# Altium footprint library LEDs.PcbLib: 54 footprints (part 3 of 4)
Each footprint in its own frame and in the unit in brackets; x right, y up, seen from the top. Pads: shape width x height; smd on the part's side, far side on the other; paste and mask are expansions set on the pad; w line width, h text height; cw(c..) or ccw(c..) is an arc to the next point about the centre after c.
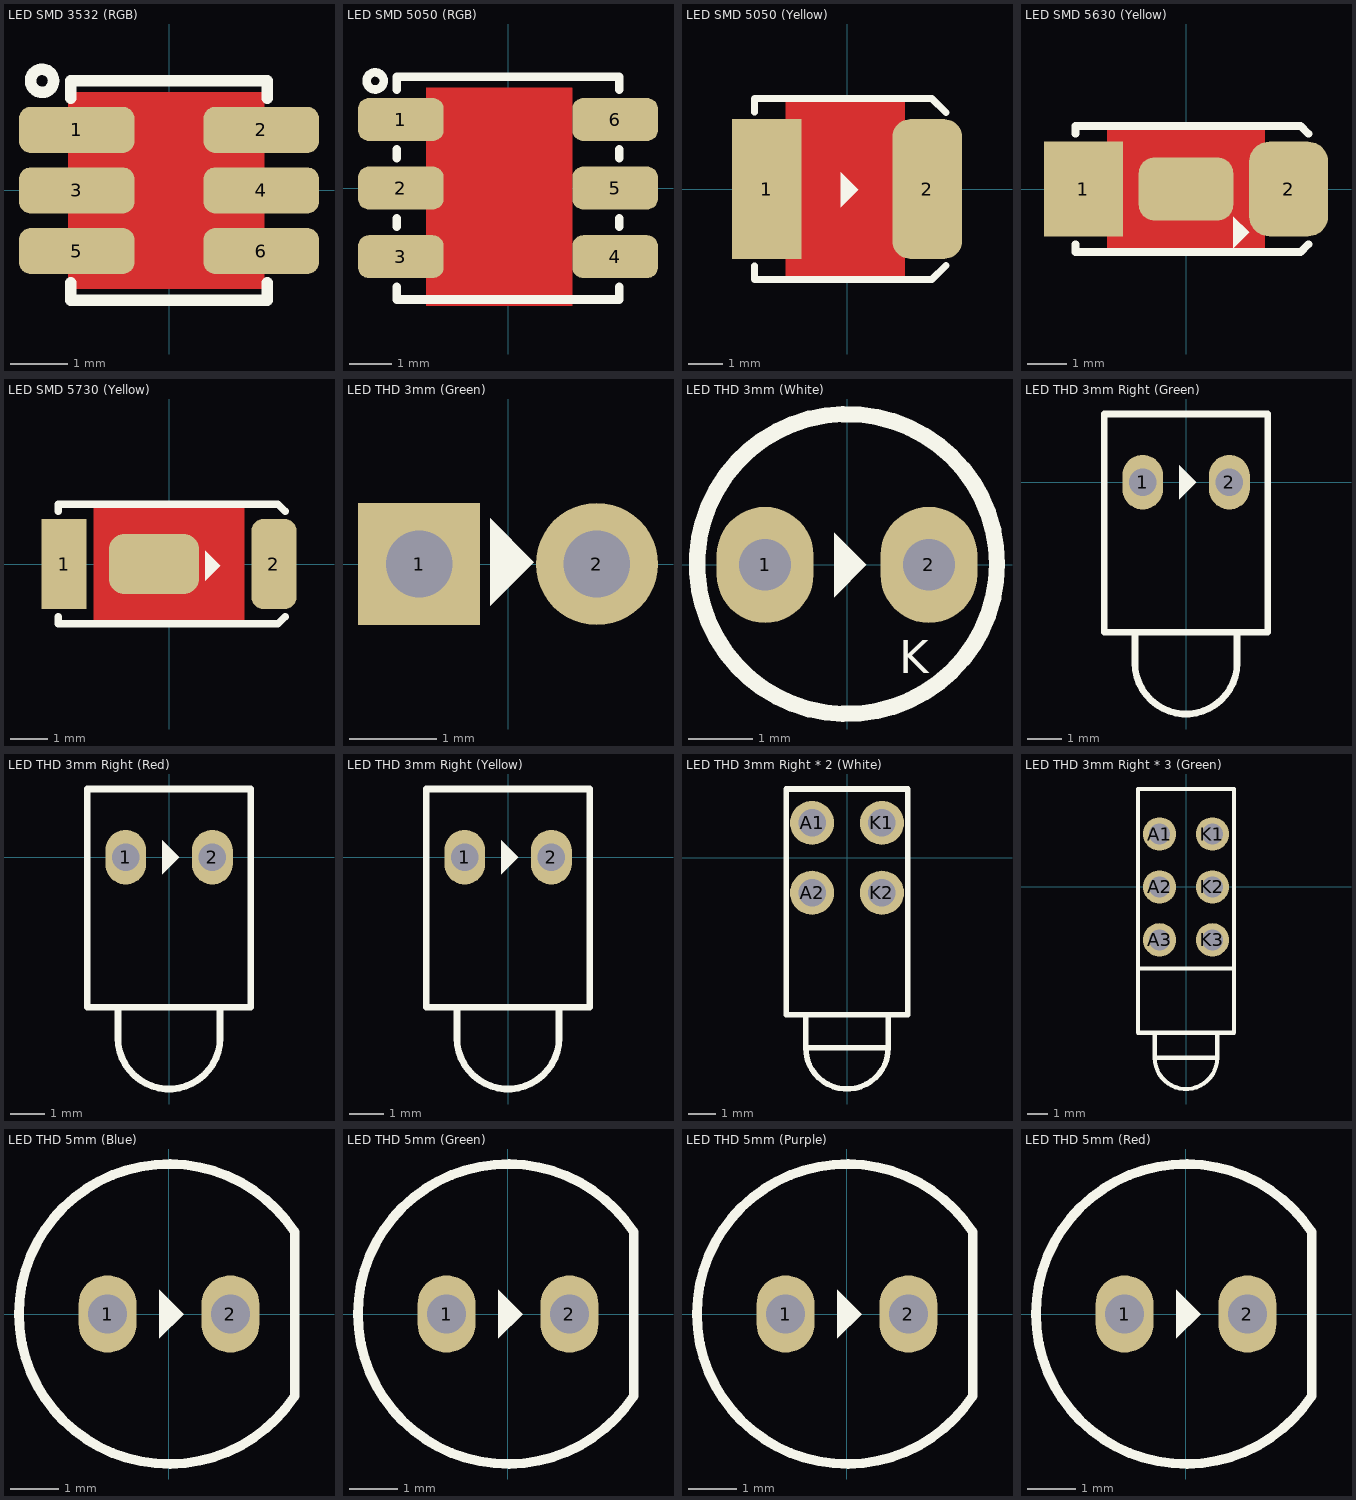
[diagram p2: the footprints below, top view; thin cyan lines are the x and y axes]

## LED SMD 3532 (RGB) [mm]
pads (6):
  rrect50% 2x0.8 smd mask+0.075: 1(-1.6,1.05) 2(1.6,1.05) 3(-1.6,0) 4(1.6,0) 5(-1.6,-1.05) 6(1.6,-1.05)
Top Layer:
  pour cut-out: -1.75,1.7 1.65,1.7 1.65,-1.7 -1.75,-1.7
Top Overlay:
  circle w0.2: c-2.2,1.9 r0.2
  lines w0.2: -1.7,-1.6 -1.7,-1.9 1.7,-1.9 1.7,-1.6 ; -1.7,1.6 -1.7,1.9 1.7,1.9 1.7,1.6
3D body "User Library-LED_RGB_Osram_LRTB_G6SG.step": height 2.01, standoff 0, extent -1.8,-1.75 1.8,1.75

## LED SMD 5050 (RGB) [mm]
pads (6):
  rrect50% 2x1 smd mask+0.1: 1(-2.5,1.6) 2(-2.5,0) 3(-2.5,-1.6) 4(2.5,-1.6) 5(2.5,0) 6(2.5,1.6)
Top Layer:
  pour cut-out: -1.903,2.337 1.497,2.337 1.497,-2.743 -1.903,-2.743
Top Overlay:
  circle w0.2: c-3.1,2.5 r0.2
  lines w0.2: -2.6,-2.3 -2.6,-2.6 2.6,-2.6 2.6,-2.3 ; -2.6,-0.9 -2.6,-0.7 ; -2.6,0.7 -2.6,0.9 ; -2.6,2.3 -2.6,2.6 2.6,2.6 2.6,2.3 ; 2.6,-0.9 2.6,-0.7 ; 2.6,0.7 2.6,0.9
3D body "User Library-APA102C_RGB.step": height 1.55, standoff 0, extent -2.75,-2.5 2.75,2.5

## LED SMD 5050 (Yellow) [mm]
pads (2):
  rect 2x4 smd mask+0.1: 1(-2.3,0)
  rrect50% 2x4 smd mask+0.1: 2(2.3,0)
Top Layer:
  pour cut-out: -1.75,2.54 1.65,2.54 1.65,-2.54 -1.75,-2.54
Top Overlay:
  region: -0.175,0.475 -0.175,-0.525 0.325,-0.025
  lines w0.2: -2.65,-2.2 -2.65,-2.6 2.43,-2.6 2.84,-2.19 ; -2.65,2.2 -2.65,2.6 2.43,2.6 2.84,2.19
3D body "User Library-smd_led_5050.step": height 1.6, standoff 0, extent -2.65,-2.5 2.65,2.5

## LED SMD 5630 (Yellow) [mm]
pads (3):
  rect 2x2.4 smd mask+0.1: 1(-2.6,0)
  rrect50% 2x2.4 smd mask+0.1: 2(2.6,0)
  rrect50% 2.4x1.6 smd mask+0.075: ""(0,0)
Top Layer:
  pour cut-out: -2,1.6 2,1.6 2,-1.6 -2,-1.6
Top Overlay:
  region: 1.6,-1.1 1.2,-0.7 1.2,-1.5
  lines w0.2: -2.8,-1.4 -2.8,-1.6 2.9,-1.6 3.1,-1.4 ; -2.8,1.4 -2.8,1.6 2.9,1.6 3.1,1.4
3D body "User Library-LED_5630.step": height 0.86, standoff -0.04, extent -2.8,-1.5 2.8,1.5

## LED SMD 5730 (Yellow) [mm]
pads (3):
  rect 1.2x2.4 smd mask+0.1: 1(-2.8,0)
  rrect50% 1.2x2.4 smd mask+0.1: 2(2.8,0)
  rrect50% 2.4x1.6 smd mask+0.075: ""(-0.4,0)
Top Layer:
  pour cut-out: -2,1.6 2,1.6 2,-1.6 -2,-1.6
Top Overlay:
  region: 1.368,-0.048 0.968,0.352 0.968,-0.448
  lines w0.2: -2.95,-1.4 -2.95,-1.6 2.9,-1.6 3.1,-1.4 ; -2.95,1.4 -2.95,1.6 2.9,1.6 3.1,1.4
3D body "User Library-PLCC-2white.step": height 0.9, standoff 0, extent -2.85,-1.5 2.85,1.5

## LED THD 3mm (Green) [mil]
pads (2):
  rect 55x55 hole 30: 1(-40,0)
  round 55 hole 30: 2(40,0)
Top Overlay:
  region: -8.07,20.54 -8.07,-18.83 11.62,0.85
3D body "LED.STEP": height 153.55, standoff -59.05, extent -68.9,-69 68.9,68.8

## LED THD 3mm (White) [mm]
pads (2):
  oval 1.5x1.8 hole 0.8: 1(-1.27,0) 2(1.27,0)
Top Overlay:
  circle w0.254: c0,0.014 r2.324
  region: -0.2,0.5 -0.2,-0.5 0.3,0
  text "K" at 0.813,-1.676 h0.51
3D body "CircuitWorks-LED DIP 3MM.step": height 6.5, standoff -2, extent -1.9,-1.9 1.6,1.9

## LED THD 3mm Right (Green) [mm]
pads (2):
  oval 1.2x1.6 hole 0.8: 1(-1.27,0) 2(1.27,0)
Top Overlay:
  region: -0.2,0.5 -0.2,-0.5 0.3,0
  lines w0.2: -1.5,-4.4 -1.5,-5.3 ccw(c0,-5.3) 1.5,-5.3 1.5,-4.4 ; -2.4,-4.4 -2.4,2 2.4,2 2.4,-4.4 -2.4,-4.4
3D body "LEDd3YC-Green.STEP": height 7.31, standoff -2.49, extent -2.323,-6.832 2.3,1.927

## LED THD 3mm Right (Red) [mm]
pads (2):
  oval 1.2x1.6 hole 0.8: 1(-1.27,0) 2(1.27,0)
Top Overlay:
  region: -0.2,0.5 -0.2,-0.5 0.3,0
  lines w0.2: -1.5,-4.4 -1.5,-5.3 ccw(c0,-5.3) 1.5,-5.3 1.5,-4.4 ; -2.4,-4.4 -2.4,2 2.4,2 2.4,-4.4 -2.4,-4.4
3D body "LEDd3YC-Red.STEP": height 7.31, standoff -2.49, extent -2.323,-6.832 2.3,1.927

## LED THD 3mm Right (Yellow) [mm]
pads (2):
  oval 1.2x1.6 hole 0.8: 1(-1.27,0) 2(1.27,0)
Top Overlay:
  region: -0.2,0.5 -0.2,-0.5 0.3,0
  lines w0.2: -1.5,-4.4 -1.5,-5.3 ccw(c0,-5.3) 1.5,-5.3 1.5,-4.4 ; -2.4,-4.4 2.4,-4.4 2.4,2 -2.4,2 -2.4,-4.4
3D body "LEDd3YC-Yellow.STEP": height 7.31, standoff -2.49, extent -2.323,-6.832 2.3,1.927

## LED THD 3mm Right * 2 (White) [mm]
pads (4):
  round 1.6 / inner round 1.6 / far side oval 1.6x2 hole 1: A1(-1.27,1.27) A2(-1.27,-1.27) K1(1.27,1.27) K2(1.27,-1.27)
Top Overlay:
  lines w0.2: -1.5,-5.7 -1.5,-6.9 ; 1.5,-5.7 1.5,-6.9 ; -1.5,-6.9 ccw(c0,-6.9) 1.5,-6.9 ; -1.5,-6.9 1.5,-6.9 ; -2.2,-5.7 -2.2,2.5 2.2,2.5 2.2,-5.7 -2.2,-5.7
Mechanical 29:
  text ".Designator" at -5.43,-1.27 h0.51
3D body "55307XXF.stp": height 9.65, standoff -3.68, extent -2.15,-8.55 2.168,2.448

## LED THD 3mm Right * 3 (Green) [mm]
pads (6):
  round 1.6 / inner round 1.6 / far side oval 1.6x2 hole 1: A1(-1.27,2.54) A2(-1.27,0) A3(-1.27,-2.54) K1(1.27,2.54) K2(1.27,0) K3(1.27,-2.54)
Top Overlay:
  lines w0.2: -2.3,-3.922 2.3,-3.922 ; -1.5,-7 -1.5,-8.2 ; 1.5,-7 1.5,-8.2 ; -1.5,-8.2 ccw(c0,-8.2) 1.5,-8.2 ; -1.5,-8.2 1.5,-8.2 ; -2.3,-7 -2.3,4.7 2.3,4.7 2.3,-7 -2.3,-7
3D body "LED bar 3-high 3mm.STEP": height 15.34, standoff -3.58, extent -2.16,-9.655 2.16,4.575

## LED THD 5mm (Blue) [mm]
pads (2):
  oval 1.2x1.6 hole 0.8: 1(-1.27,0) 2(1.27,0)
Top Overlay:
  region: -0.2,0.5 -0.2,-0.5 0.3,0
  lines w0.2: 2.6,-1.7 2.6,1.7 ; 2.6,-1.688 cw(c0,0) 2.6,1.688
3D body "LED-D5R.step": height 9.14, standoff -6.3, extent -3,-3 2.5,3

## LED THD 5mm (Green) [mm]
pads (2):
  oval 1.2x1.6 hole 0.8: 1(-1.27,0) 2(1.27,0)
Top Overlay:
  region: -0.2,0.5 -0.2,-0.5 0.3,0
  lines w0.2: 2.6,-1.7 2.6,1.7 ; 2.6,-1.688 cw(c0,0) 2.6,1.688
3D body "LED-D5G.step": height 9.14, standoff -6.3, extent -3,-3 2.5,3

## LED THD 5mm (Purple) [mm]
pads (2):
  oval 1.2x1.6 hole 0.8: 1(-1.27,0) 2(1.27,0)
Top Overlay:
  region: -0.2,0.5 -0.2,-0.5 0.3,0
  lines w0.2: 2.6,-1.7 2.6,1.7 ; 2.6,-1.688 cw(c0,0) 2.6,1.688
3D body "LED-D5R.step": height 9.14, standoff -6.3, extent -3,-3 2.5,3

## LED THD 5mm (Red) [mm]
pads (2):
  oval 1.2x1.6 hole 0.8: 1(-1.27,0) 2(1.27,0)
Top Overlay:
  region: -0.2,0.5 -0.2,-0.5 0.3,0
  lines w0.2: 2.6,-1.7 2.6,1.7 ; 2.6,-1.688 cw(c0,0) 2.6,1.688
3D body "LED-D5R.step": height 9.14, standoff -6.3, extent -3,-3 2.5,3